# Altium schematic symbol library PANASONIC CAP ELECTROLYTIC.SchLib: 1 symbol
Pins are listed as number, name and electrical type; pins without a type are passive.

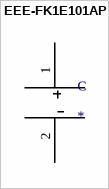
[diagram p0: symbol EEE-FK1E101AP]

## EEE-FK1E101AP
designator C
Aluminium Electrolytic Capacitors - SMD 100UF 25V FK SMD
footprint CAPAE7084X65M (Aluminum Electrolytic Capacitor, Body 8,40x8,40x6,50mm, IPC Low Density)
pins: 1, 2